# Altium schematic symbol library 09.03290.01.SchLib: 1 symbol
Pins are listed as number, name and electrical type; pins without a type are passive.

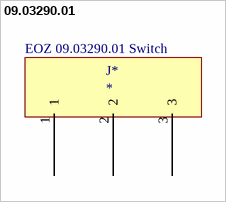
[diagram p0: symbol 09.03290.01]

## 09.03290.01
designator J*
footprint SIP3
pins: 1, 2, 3
text: EOZ 09.03290.01 Switch